# Altium footprint library Resistor.PcbLib: 14 footprints
Each footprint in its own frame and in the unit in brackets; x right, y up, seen from the top. Pads: shape width x height; smd on the part's side, far side on the other; paste and mask are expansions set on the pad; w line width, h text height; cw(c..) or ccw(c..) is an arc to the next point about the centre after c.
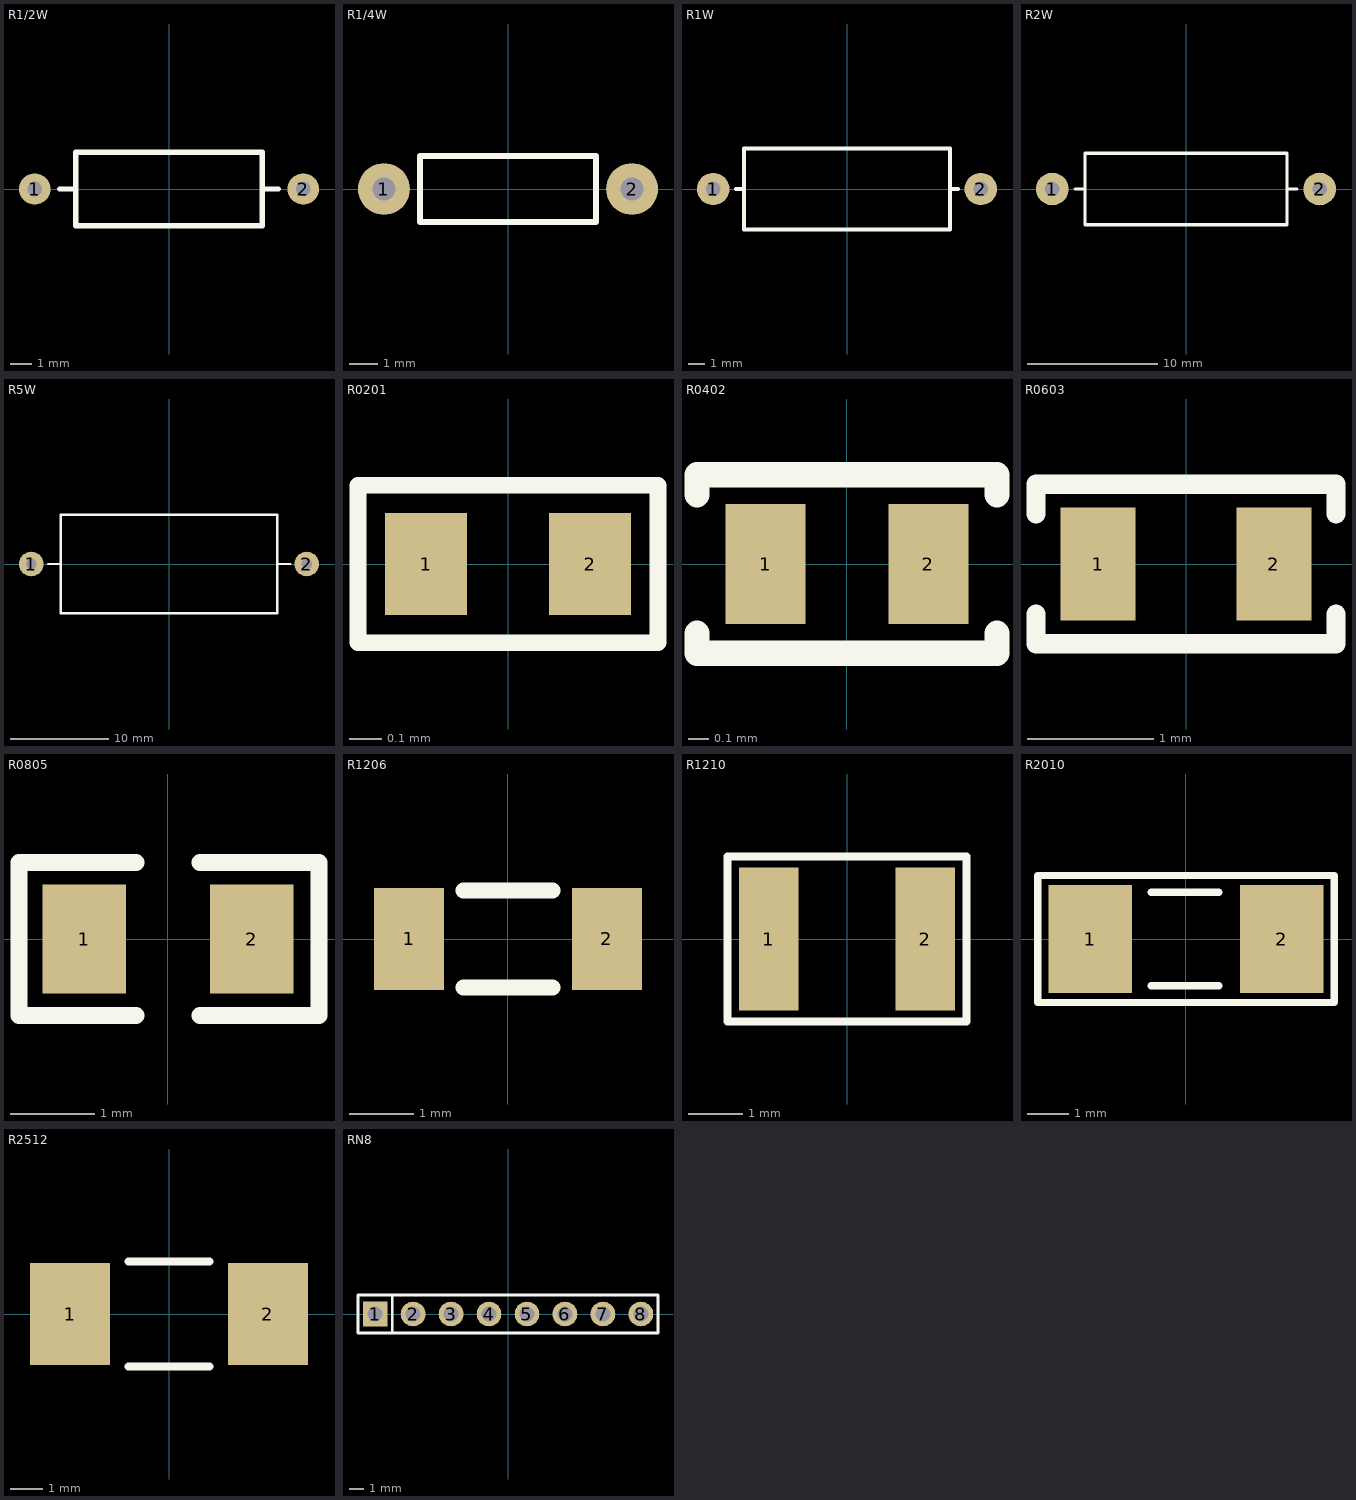
[diagram p0: the footprints below, top view; thin cyan lines are the x and y axes]

## R1/2W [mm]
pads (2):
  round 1.5 hole 0.7: 1(-6.4,0) 2(6.4,0)
Top Overlay:
  lines w0.254: -5.207,0 -4.445,0 ; 4.445,0 5.207,0 ; -4.445,-1.75 -4.445,1.75 4.445,1.75 4.445,-1.75 -4.445,-1.75
3D body "Resistro_0.5w.STEP": height 3.5, standoff -3, extent -6.62,-1.75 6.62,1.75

## R1/4W [mm]
pads (2):
  round 1.8 hole 0.8: 1(-4.3,0) 2(4.3,0)
Top Overlay:
  lines w0.203: -3.048,-1.143 3.048,-1.143 3.048,0 3.048,1.143 -3.048,1.143 -3.048,0 -3.048,-1.143
3D body "resistor025W-68R.STEP": height 2.75, standoff -2.5, extent -4.55,-1.25 4.55,1.249

## R1W [mm]
pads (2):
  round 2 hole 0.9: 1(-8.25,0) 2(8.25,0)
Top Overlay:
  lines w0.254: -6.85,0 -6.35,0 ; 6.35,0 6.85,0 ; -6.35,-2.497 -6.35,2.497 6.35,2.497 6.35,-2.497 -6.35,-2.497
3D body "RES-1W-H-MF.stp": height 5.1, standoff -2.5, extent -8.652,-2.497 8.655,2.497

## R2W [mm]
pads (2):
  round 2.5 hole 1.1: 1(-10.25,0) 2(10.25,0)
Top Overlay:
  lines w0.254: -8.509,0 -7.747,0 ; 7.747,0 8.509,0 ; -7.747,-2.75 -7.747,2.75 7.747,2.75 7.747,-2.75 -7.747,-2.75
3D body "RES-2W-H-MF.stp": height 5.6, standoff -2.5, extent -10.557,-2.75 10.56,2.75

## R5W [mm]
pads (2):
  round 2.5 hole 1.1: 1(-14,0) 2(14,0)
Top Overlay:
  lines w0.254: -12.27,0 -11,0 ; 11.049,0 12.319,0 ; -11,-5 -11,5 11,5 11,-5 -11,-5
3D body "Resistors 5W.step": height 9, standoff -3.6, extent -14.345,-5 14.345,5

## R0201 [mm]
pads (2):
  rect 0.25x0.31 smd mask+0.051: 1(-0.25,0) 2(0.25,0)
Top Overlay:
  lines w0.051: -0.458,-0.24 -0.458,0.241 0.457,0.241 0.457,-0.24 -0.458,-0.24
3D body "ERJ-U01F1601C.STEP": height 0.23, standoff 0, extent -0.3,-0.15 0.3,0.15

## R0402 [mm]
pads (2):
  rect 0.4x0.6 smd mask+0.051: 1(-0.406,0) 2(0.406,0)
Top Overlay:
  lines w0.127: -0.75,-0.345 -0.75,-0.445 0.75,-0.445 0.75,-0.345 ; -0.75,0.346 -0.75,0.446 0.75,0.446 0.75,0.346
3D body "R0402.step": height 0.32, standoff 0, extent -0.475,-0.25 0.526,0.25

## R0603 [mm]
height 0.5
pads (2):
  rect 0.6x0.9 smd mask+0.076: 1(-0.7,0) 2(0.7,0)
Top Overlay:
  lines w0.152: -1.194,-0.399 -1.194,-0.635 1.194,-0.635 1.194,-0.399 ; -1.194,0.399 -1.194,0.635 1.194,0.635 1.194,0.399
3D body "R0603.step": height 0.45, standoff 0, extent -0.8,-0.4 0.8,0.4

## R0805 [mm]
pads (2):
  rect 1x1.3 smd: 1(-0.999,0) 2(0.999,0)
Top Overlay:
  lines w0.203: -0.381,-0.914 -1.778,-0.914 -1.778,0.914 -0.381,0.914 ; 0.381,-0.914 1.803,-0.914 1.803,0.914 0.381,0.914
3D body "R0805.step": height 0.5, standoff 0, extent -1,-0.625 1,0.625

## R1206 [mm]
pads (2):
  rect 1.1x1.6 smd: 1(-1.55,0) 2(1.55,0)
Top Overlay:
  lines w0.254: -0.698,-0.762 0.699,-0.762 ; -0.698,0.762 0.699,0.762
3D body "RESC3217X06N.step": height 0.6, standoff 0, extent -1.6,-0.85 1.6,0.85

## R1210 [mm]
height 1.7
pads (2):
  rect 1.1x2.65 smd: 1(-1.45,0) 2(1.45,0)
Top Overlay:
  lines w0.152: -2.21,-1.524 2.21,-1.524 2.21,1.524 -2.21,1.524 -2.21,-1.524
Mechanical 13:
  lines w0.1: -1.6,-1.25 -1.6,1.25 ; 1.6,-1.25 1.6,1.25
3D body "R1210.step": height 0.55, standoff 0, extent -1.55,-1.3 1.55,1.3

## R2010 [mm]
pads (2):
  rect 2x2.6 smd: 1(-2.3,0) 2(2.3,0)
Top Overlay:
  lines w0.178: -0.838,-1.118 0.787,-1.118 ; -0.838,1.118 0.787,1.118 ; -3.556,-1.524 -3.556,1.524 3.556,1.524 3.556,-1.524 -3.556,-1.524
3D body "Tro 2010.step": height 0.59, standoff -0.01, extent -2.5,-1.25 2.5,1.25

## R2512 [mm]
pads (2):
  rect 2.5x3.2 smd: 1(-3.1,0) 2(3.1,0)
Top Overlay:
  lines w0.254: -1.27,-1.651 1.27,-1.651 ; -1.27,1.651 1.27,1.651
3D body "Resistor SMD 2512.STEP": height 0.82, standoff 0.22, extent -3.131,-1.575 3.169,1.575

## RN8 [mm] "R SIP4, 5 Pin"
height 5.08
pads (8):
  rect 1.65x1.65 hole 1: 1(-8.89,0)
  round 1.65 hole 1: 2(-6.35,0) 3(-3.81,0) 4(-1.27,0) 5(1.27,0) 6(3.81,0) 7(6.35,0) 8(8.89,0)
Top Overlay:
  lines w0.178: -7.747,-1.27 -7.747,1.27 ; -10.033,-1.27 -10.033,1.27 10.033,1.27 10.033,-1.27 -10.033,-1.27
3D body "4608X-101-103LF.STEP": height 6.08, standoff -2.8, extent -10.135,-1.245 10.135,1.245